# EAGLE library part CAT6 (library fcounter)
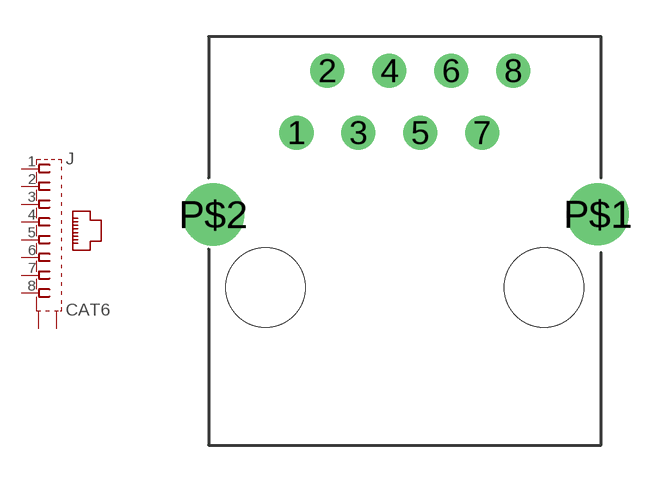
[diagram p4: symbol with the pads of CAT6; footprint CAT6]

Designator prefix J

## CAT6  [CAT6]
1  1  pas
2  2  pas
3  3  pas
4  4  pas
5  5  pas
6  6  pas
7  7  pas
8  8  pas
P$1  S1  pas
P$2  S2  pas

## Footprint CAT6 (pad centres in mm)
drill 0.889 round: 1 -4.445,5.08; 2 -3.175,7.62; 3 -1.905,5.08; 4 -0.635,7.62; 5 0.635,5.08; 6 1.905,7.62; 7 3.175,5.08; 8 4.445,7.62
drill 1.7 round: P$1 7.913,1.734; P$2 -7.862,1.721
hole 3.251 at -5.715,-1.27
hole 3.251 at 5.715,-1.27